# Altium schematic symbol library Microcontrollers.SchLib: 3 symbols
Pins are listed as number, name and electrical type; pins without a type are passive.

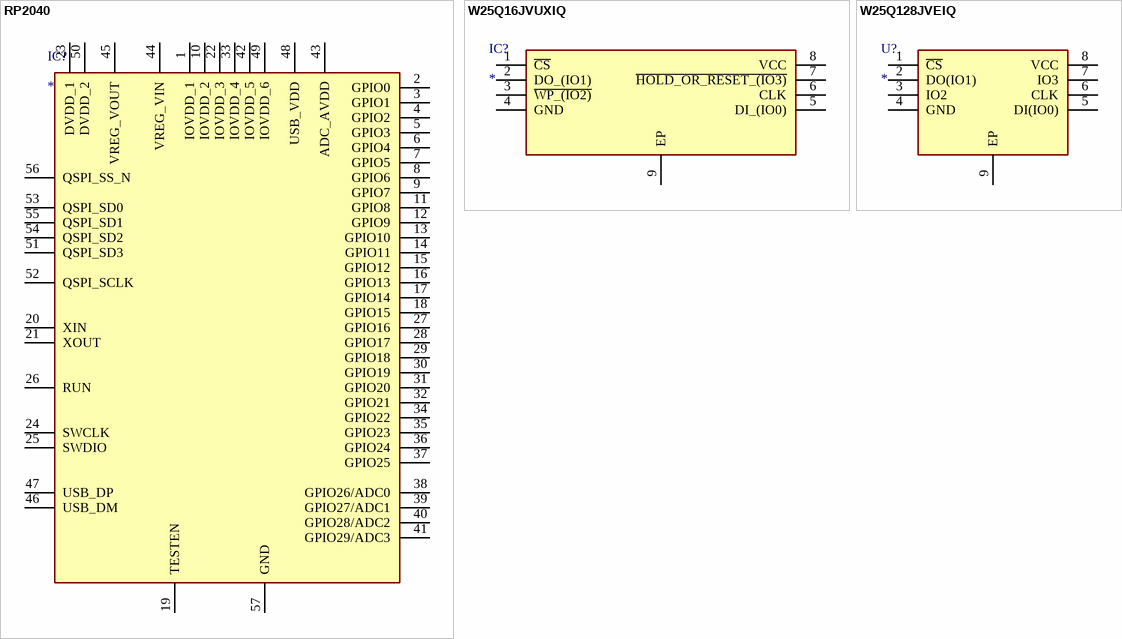
[diagram p0: symbols RP2040 to W25Q128JVEIQ]

## RP2040
designator IC?
Arm Cortex M0+ microcontroller created by the Raspberry Pi Foundation; Manufacturer_Name: RASPBERRY-PI; Manufacturer_Part_Number: RP2040; Datasheet Link: https://datasheets.raspberrypi.org/rp2040/rp2040-datasheet.pdf; Height: 0.9mm
footprint QFN40P700X700X90-57N-D
pins: 1 IOVDD_1, 2 GPIO0, 3 GPIO1, 4 GPIO2, 5 GPIO3, 6 GPIO4, 7 GPIO5, 8 GPIO6, 9 GPIO7, 10 IOVDD_2, 11 GPIO8, 12 GPIO9, 13 GPIO10, 14 GPIO11, 15 GPIO12, 16 GPIO13, 17 GPIO14, 18 GPIO15, 19 TESTEN, 20 XIN, 21 XOUT, 22 IOVDD_3, 23 DVDD_1, 24 SWCLK, 25 SWDIO, 26 RUN, 27 GPIO16, 28 GPIO17, 29 GPIO18, 30 GPIO19, 31 GPIO20, 32 GPIO21, 33 IOVDD_4, 34 GPIO22, 35 GPIO23, 36 GPIO24, 37 GPIO25, 38 GPIO26/ADC0, 39 GPIO27/ADC1, 40 GPIO28/ADC2, 41 GPIO29/ADC3, 42 IOVDD_5, 43 ADC_AVDD, 44 VREG_VIN, 45 VREG_VOUT, 46 USB_DM, 47 USB_DP, 48 USB_VDD, 49 IOVDD_6, 50 DVDD_2, 51 QSPI_SD3, 52 QSPI_SCLK, 53 QSPI_SD0, 54 QSPI_SD2, 55 QSPI_SD1, 56 QSPI_SS_N, 57 GND

## W25Q16JVUXIQ
designator IC?
16MB QSPI Flash (Winbond); Manufacturer_Part_Number: W25Q16JVUXIQ; Datasheet Link: https://www.winbond.com/hq/search-resource-file.jsp?partNo=W25Q16JVUXIQ&type=datasheet; Height: 0.6mm; Manufacturer_Name: Winbond
footprint SON50P300X200X60-9N
pins: 1 ~{CS}, 2 DO_(IO1), 3 ~{WP_(IO2)}, 4 GND, 5 DI_(IO0), 6 CLK, 7 ~{HOLD_OR_RESET_(IO3)}, 8 VCC, 9 EP

## W25Q128JVEIQ
designator U?
128 MB QSPI Flash (Winbond); Manufacturer_Part_Number: W25Q128JVEIQ; Datasheet Link: https://www.winbond.com/hq/search-resource-file.jsp?partNo=W25Q128JVEIQ&type=datasheet; Height: 0.8mm; Manufacturer_Name: Winbond; Mouser Part Number: 454-W25Q128JVEIQ; Mouser Price/Stock: https://www.mouser.co.uk/ProductDetail/Winbond/W25Q128JVEIQ?qs=qSfuJ%252Bfl%2Fd667JrLNi7hwg%3D%3D; Arrow Part Number: W25Q128JVEIQ; Arrow Price/Stock: https://www.arrow.com/en/products/w25q128jveiq/winbond-electronics?region=nac
footprint SON127P800X600X80-9N-D
pins: 1 ~{CS}, 2 DO(IO1), 3 IO2, 4 GND, 5 DI(IO0), 6 CLK, 7 IO3, 8 VCC, 9 EP